# EAGLE library part MAX4475-OPAMP (library gele.maximopamps_44xx)
MAX4475, MAX4488 Low-Noise, Low-Distortion, Wide-Band, Rail-to-Rail Op Amps with shutdown For power conservation, the MAX4475/MAX4488 offer a low-power shutdown mode that reduces supply current to 0.01μA and places the amplifiers’ outputs into a high-impedance state. These amplifiers have outputs which swing rail-to-rail and their input common-mode voltage range includes ground. The MAX4475 is unity-gain stable with a gain-bandwidth product of 10MHz. MAX4488 is internally compensated for gains of +5V/V or greater with a gain-bandwidth product of 42MHz. Features: ♦ Low Input Voltage-Noise Density: 4.5nV/√Hz ♦ Low Input Current-Noise Density: 0.5fA/√Hz ♦ Low Distortion: 0.0002% THD+N (1kΩ load) ♦ Single-Supply Operation from +2.7V to +5.5V source used: http://www.farnell.com/datasheets/28851.pdf
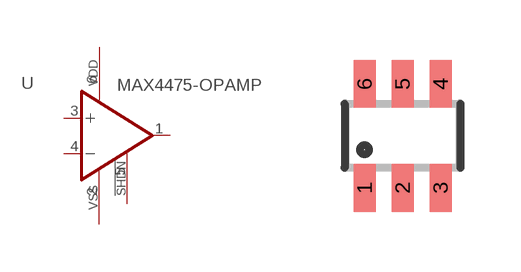
[diagram p0: symbol with the pads of SOT23-6; footprint SOT23-6]

Designator prefix -

## MAX4475-OPAMP  [SOT23-6]
1  OUT  out
2  VSS  pwr
3  +IN  in
4  -IN  in
5  !SHDN  in
6  VDD  pwr

## Footprint SOT23-6 (pad centres in mm)
Small Outline Transistor - 6 Pin
smd 0.55 x 1.2: 1 -0.95,-1.3; 2 0,-1.3; 3 0.95,-1.3; 4 0.95,1.3; 5 0,1.3; 6 -0.95,1.3